# EAGLE library part DRV8833PW (library DRV8833PW)
Check prices <https://pricing.snapeda.com/parts/DRV8833PW/Texas%20Instruments/view-part?ref=eda>
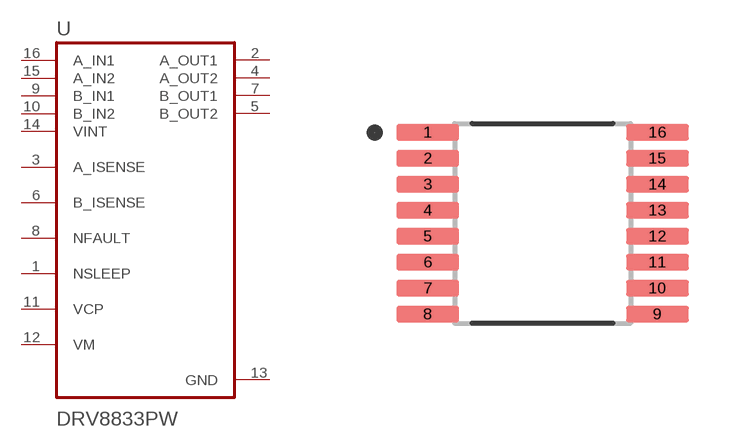
[diagram p0: symbol with the pads of SOP65P640X120-16N; footprint SOP65P640X120-16N]

Designator prefix U

## DRV8833PW (Availability: In Stock; Description: 10.8-V, 2-A dual H-bridge motor driver with current regulation 16-TSSOP -40 to 85; MF: Texas Instruments; MP: DRV8833PW; Package: TSSOP-16 Texas Instruments; Price: None)  [SOP65P640X120-16N]
1  NSLEEP
2  A_OUT1  out
3  A_ISENSE
4  A_OUT2  out
5  B_OUT2  out
6  B_ISENSE
7  B_OUT1  out
8  NFAULT
9  B_IN1  in
10  B_IN2  in
11  VCP
12  VM
13  GND  pwr
14  VINT  in
15  A_IN2  in
16  A_IN1  in

## Footprint SOP65P640X120-16N (pad centres in mm)
smd 1.57 x 0.41: 1 -2.87,2.275; 2 -2.87,1.625; 3 -2.87,0.975; 4 -2.87,0.325; 5 -2.87,-0.325; 6 -2.87,-0.975; 7 -2.87,-1.625; 8 -2.87,-2.275; 9 2.87,-2.275; 10 2.87,-1.625; 11 2.87,-0.975; 12 2.87,-0.325; 13 2.87,0.325; 14 2.87,0.975; 15 2.87,1.625; 16 2.87,2.275